# Altium integrated library TI Power Management LDO Single Channel(400-7500mA).IntLib: 1409 symbols (part 15 of 60)
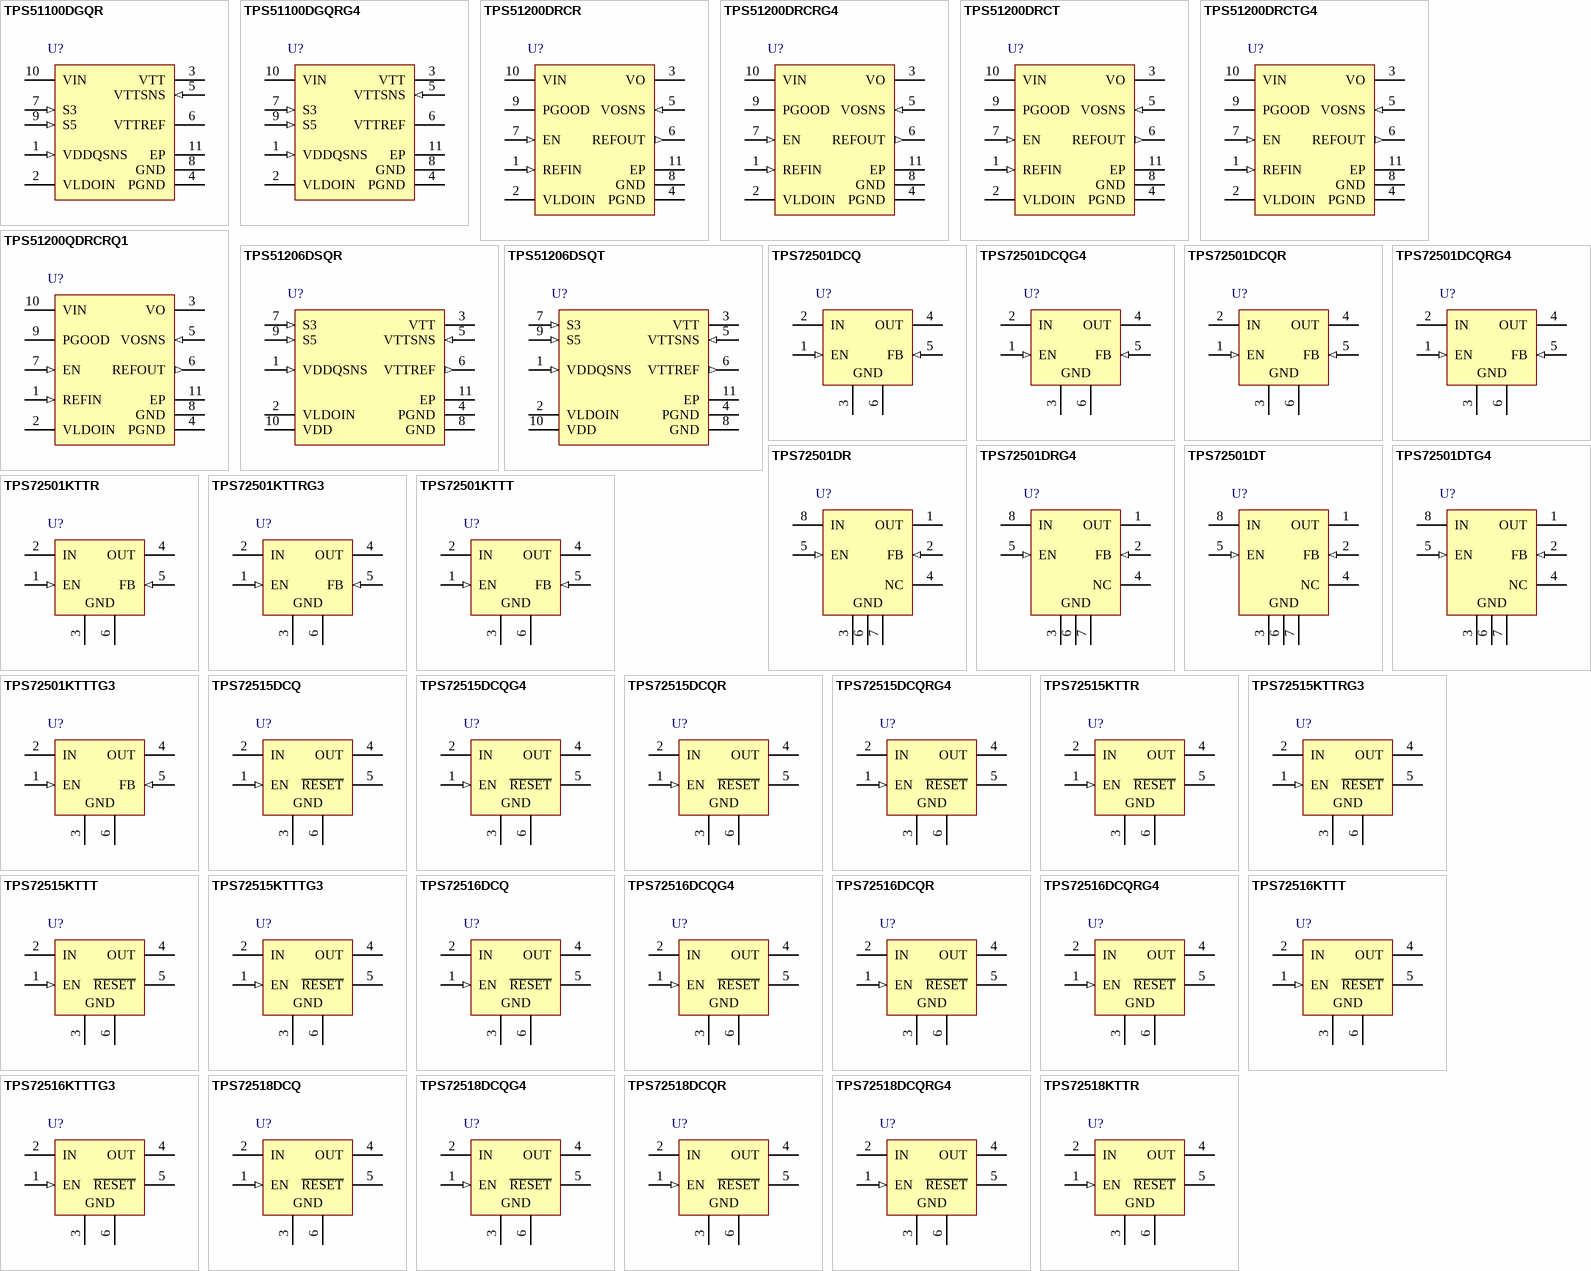
[diagram p64: symbols TPS51100DGQR to TPS72518KTTR]

## TPS72516DCQG4
designator U?
Single Output Any Cap LDO, 1 A, Fixed 1.6 V Output, 1.8 to 6 V Input, with Integrated SVS, 6-pin SOT-223 (DCQ), -40 to 125 degC, Green (RoHS & no Sb/Br); Manufacturer: Texas Instruments; PartNumber: TPS72516DCQG4; Accuracy(%): 2; Fixed Output Options(V): 1.8; Iout(Max)(A): 1; Iq(Typ)(mA): 0.07; SubFamily: Single Channel LDO; Vdo(Typ)(mV): 170; Vin(Max)(V): 6; Vout Adj(Max)(V): 1.6; DatasheetVersion: SLVS341E; PackageVersion: 4202109/D; PackageReference: DCQ6; PackageDescription: 6-Pin Plastic Small Outline, Body 3.5 x 6.5 mm, Pitch 1.27 mm; Supplier 1: Digi-Key; Supplier Part Number 1: TPS72516DCQG4-ND; Supplier 2: Mouser; Supplier Part Number 2: 595-TPS72516DCQG4; Eco-Plan: Green (RoHS & no Sb/Br); Vin(Min)(V): 1.8; Vout Adj(Min)(V): 1.6; Mounting Technology: Surface Mount; ComponentLink1Description: Manufacturer URL; ComponentLink1URL: http://www.ti.com/; ComponentLink2Description: Datasheet; ComponentLink2URL: http://www.ti.com/general/docs/lit/getliterature.tsp?genericPartNumber=TPS72516&fileType=pdf; ComponentLink3Description: Package Specification; ComponentLink3URL: http://www.ti.com/litv/pdf/mpds098c
footprint TI-DCQ6_N (SOT223, 6-Leads, Body 6.5x3.5mm, Pitch 1.27mm, IPC Medium Density)
footprint TI-DCQ6_L (SOT223, 6-Leads, Body 6.5x3.5mm, Pitch 1.27mm, IPC High Density)
footprint TI-DCQ6_M (SOT223, 6-Leads, Body 6.5x3.5mm, Pitch 1.27mm, IPC Low Density)
pins: 1 EN (in) "Enable input", 2 IN (power) "Input supply voltage", 3 GND (power) "Ground", 4 OUT (power) "Regulated output voltage", 5 ~{RESET} (oc) "This terminal is the R\E\S\E\T\ output. When used with a pull-up resistor, this open-drain output provides the active low R\E\S\E\T\ signal when the regulator output voltage drops more than 5% below its nominal output (See Datasheet)", 6 GND (power) "Exposed Thermal Tab"

## TPS72516DCQR
designator U?
Single Output Any Cap LDO, 1 A, Fixed 1.6 V Output, 1.8 to 6 V Input, with Integrated SVS, 6-pin SOT-223 (DCQ), -40 to 125 degC, Green (RoHS & no Sb/Br); Manufacturer: Texas Instruments; PartNumber: TPS72516DCQR; Accuracy(%): 2; Fixed Output Options(V): 1.8; Iout(Max)(A): 1; Iq(Typ)(mA): 0.07; SubFamily: Single Channel LDO; Vdo(Typ)(mV): 170; Vin(Max)(V): 6; Vout Adj(Max)(V): 1.6; DatasheetVersion: SLVS341E; PackageVersion: 4202109/D; PackageReference: DCQ6; PackageDescription: 6-Pin Plastic Small Outline, Body 3.5 x 6.5 mm, Pitch 1.27 mm; Supplier 1: Digi-Key; Supplier Part Number 1: 296-14420-2-ND; Supplier 2: Digi-Key; Supplier Part Number 2: 296-14420-1-ND; Supplier 3: Digi-Key; Supplier Part Number 3: 296-14420-6-ND; Supplier 4: Farnell; Supplier Part Number 4: 2113948; Supplier 5: Newark; Supplier Part Number 5: 96T7573; Supplier 6: Newark; Supplier Part Number 6: 02E7232; Supplier 7: Mouser; Supplier Part Number 7: 595-TPS72516DCQR; Eco-Plan: Green (RoHS & no Sb/Br); Vin(Min)(V): 1.8; Vout Adj(Min)(V): 1.6; Mounting Technology: Surface Mount; ComponentLink1Description: Manufacturer URL; ComponentLink1URL: http://www.ti.com/; ComponentLink2Description: Datasheet; ComponentLink2URL: http://www.ti.com/general/docs/lit/getliterature.tsp?genericPartNumber=TPS72516&fileType=pdf; ComponentLink3Description: Package Specification; ComponentLink3URL: http://www.ti.com/litv/pdf/mpds098c
footprint TI-DCQ6_N (SOT223, 6-Leads, Body 6.5x3.5mm, Pitch 1.27mm, IPC Medium Density)
footprint TI-DCQ6_L (SOT223, 6-Leads, Body 6.5x3.5mm, Pitch 1.27mm, IPC High Density)
footprint TI-DCQ6_M (SOT223, 6-Leads, Body 6.5x3.5mm, Pitch 1.27mm, IPC Low Density)
pins: 1 EN (in) "Enable input", 2 IN (power) "Input supply voltage", 3 GND (power) "Ground", 4 OUT (power) "Regulated output voltage", 5 ~{RESET} (oc) "This terminal is the R\E\S\E\T\ output. When used with a pull-up resistor, this open-drain output provides the active low R\E\S\E\T\ signal when the regulator output voltage drops more than 5% below its nominal output (See Datasheet)", 6 GND (power) "Exposed Thermal Tab"

## TPS72516DCQRG4
designator U?
Single Output Any Cap LDO, 1 A, Fixed 1.6 V Output, 1.8 to 6 V Input, with Integrated SVS, 6-pin SOT-223 (DCQ), -40 to 125 degC, Green (RoHS & no Sb/Br); Manufacturer: Texas Instruments; PartNumber: TPS72516DCQRG4; Accuracy(%): 2; Fixed Output Options(V): 1.6; Iout(Max)(A): 1; Iq(Typ)(mA): 0.07; SubFamily: Single Channel LDO; Vdo(Typ)(mV): 170; Vin(Max)(V): 6; Vin(Min)(V): 1.8; DatasheetVersion: SLVS341E; PackageVersion: 4202109/D; PackageReference: DCQ6; PackageDescription: 6-Pin Plastic Small Outline, Body 3.5 x 6.5 mm, Pitch 1.27 mm; Supplier 1: Digi-Key; Supplier Part Number 1: TPS72516DCQRG4-ND; Supplier 2: Mouser; Supplier Part Number 2: 595-TPS72516DCQRG4; Eco-Plan: Green (RoHS & no Sb/Br); Vout Adj(Max)(V): 1.6; Vout Adj(Min)(V): 1.6; Mounting Technology: Surface Mount; ComponentLink1Description: Manufacturer URL; ComponentLink1URL: http://www.ti.com/; ComponentLink2Description: Datasheet; ComponentLink2URL: http://www.ti.com/general/docs/lit/getliterature.tsp?genericPartNumber=TPS72516&fileType=pdf; ComponentLink3Description: Package Specification; ComponentLink3URL: http://www.ti.com/litv/pdf/mpds098c
footprint TI-DCQ6_N (SOT223, 6-Leads, Body 6.5x3.5mm, Pitch 1.27mm, IPC Medium Density)
footprint TI-DCQ6_L (SOT223, 6-Leads, Body 6.5x3.5mm, Pitch 1.27mm, IPC High Density)
footprint TI-DCQ6_M (SOT223, 6-Leads, Body 6.5x3.5mm, Pitch 1.27mm, IPC Low Density)
pins: 1 EN (in) "Enable input", 2 IN (power) "Input supply voltage", 3 GND (power) "Ground", 4 OUT (power) "Regulated output voltage", 5 ~{RESET} (oc) "This terminal is the R\E\S\E\T\ output. When used with a pull-up resistor, this open-drain output provides the active low R\E\S\E\T\ signal when the regulator output voltage drops more than 5% below its nominal output (See Datasheet)", 6 GND (power) "Exposed Thermal Tab"

## TPS72516KTTT
designator U?
Single Output Any Cap LDO, 1 A, Fixed 1.6 V Output, 1.8 to 6 V Input, with Integrated SVS, 5-pin DDPAK (KTT), -40 to 125 degC, Green (RoHS & no Sb/Br); Manufacturer: Texas Instruments; PartNumber: TPS72516KTTT; Accuracy(%): 2; Fixed Output Options(V): 1.8; Iout(Max)(A): 1; Iq(Typ)(mA): 0.07; SubFamily: Single Channel LDO; Vdo(Typ)(mV): 170; Vin(Max)(V): 6; Vout Adj(Max)(V): 1.6; DatasheetVersion: SLVS341E; PackageVersion: 4200577-3/F; PackageReference: KTT5; PackageDescription: 3-Pin Plastic Flange Mount, Body 10.16 x 10.34 mm, Pitch 1.7 mm; Supplier 1: Digi-Key; Supplier Part Number 1: 296-15951-2-ND; Supplier 2: Digi-Key; Supplier Part Number 2: 296-15951-1-ND; Supplier 3: Digi-Key; Supplier Part Number 3: 296-15951-6-ND; Supplier 4: Newark; Supplier Part Number 4: 02E7234; Supplier 5: Mouser; Supplier Part Number 5: 595-TPS72516KTTT; Eco-Plan: Green (RoHS & no Sb/Br); Vin(Min)(V): 1.8; Vout Adj(Min)(V): 1.6; Mounting Technology: Surface Mount; Code_JEDEC: TO-263; ComponentLink1Description: Manufacturer URL; ComponentLink1URL: http://www.ti.com/; ComponentLink2Description: Datasheet; ComponentLink2URL: http://www.ti.com/general/docs/lit/getliterature.tsp?genericPartNumber=TPS72516&fileType=pdf; ComponentLink3Description: Package Specification; ComponentLink3URL: http://www.ti.com/litv/pdf/mpsf007e
footprint TI-KTT5_N (DPAK, 5-Leads, Body 10.16x8.925mm, Pitch 1.7mm, IPC Medium Density)
footprint TI-KTT5_L (DPAK, 5-Leads, Body 10.16x8.925mm, Pitch 1.7mm, IPC High Density)
footprint TI-KTT5_M (DPAK, 5-Leads, Body 10.16x8.925mm, Pitch 1.7mm, IPC Low Density)
pins: 1 EN (in) "Enable input", 2 IN (power) "Input supply voltage", 3 GND (power) "Ground", 4 OUT (power) "Regulated output voltage", 5 ~{RESET} (oc) "This terminal is the R\E\S\E\T\ output. When used with a pull-up resistor, this open-drain output provides the active low R\E\S\E\T\ signal when the regulator output voltage drops more than 5% below its nominal output (See Datasheet)", 6 GND (power) "Exposed Thermal Tab"

## TPS72516KTTTG3
designator U?
Single Output Any Cap LDO, 1 A, Fixed 1.6 V Output, 1.8 to 6 V Input, with Integrated SVS, 5-pin DDPAK (KTT), -40 to 125 degC, Green (RoHS & no Sb/Br); Manufacturer: Texas Instruments; PartNumber: TPS72516KTTTG3; Accuracy(%): 2; Fixed Output Options(V): 1.6; Iout(Max)(A): 1; Iq(Typ)(mA): 0.07; SubFamily: Single Channel LDO; Vdo(Typ)(mV): 170; Vin(Max)(V): 6; Vin(Min)(V): 1.8; DatasheetVersion: SLVS341E; PackageVersion: 4200577-3/F; PackageReference: KTT5; PackageDescription: 3-Pin Plastic Flange Mount, Body 10.16 x 10.34 mm, Pitch 1.7 mm; Supplier 1: Digi-Key; Supplier Part Number 1: TPS72516KTTTG3-ND; Supplier 2: Mouser; Supplier Part Number 2: 595-TPS72516KTTTG3; Eco-Plan: Green (RoHS & no Sb/Br); Vout Adj(Max)(V): 1.6; Vout Adj(Min)(V): 1.6; Mounting Technology: Surface Mount; Code_JEDEC: TO-263; ComponentLink1Description: Manufacturer URL; ComponentLink1URL: http://www.ti.com/; ComponentLink2Description: Datasheet; ComponentLink2URL: http://www.ti.com/general/docs/lit/getliterature.tsp?genericPartNumber=TPS72516&fileType=pdf; ComponentLink3Description: Package Specification; ComponentLink3URL: http://www.ti.com/litv/pdf/mpsf007e
footprint TI-KTT5_N (DPAK, 5-Leads, Body 10.16x8.925mm, Pitch 1.7mm, IPC Medium Density)
footprint TI-KTT5_L (DPAK, 5-Leads, Body 10.16x8.925mm, Pitch 1.7mm, IPC High Density)
footprint TI-KTT5_M (DPAK, 5-Leads, Body 10.16x8.925mm, Pitch 1.7mm, IPC Low Density)
pins: 1 EN (in) "Enable input", 2 IN (power) "Input supply voltage", 3 GND (power) "Ground", 4 OUT (power) "Regulated output voltage", 5 ~{RESET} (oc) "This terminal is the R\E\S\E\T\ output. When used with a pull-up resistor, this open-drain output provides the active low R\E\S\E\T\ signal when the regulator output voltage drops more than 5% below its nominal output (See Datasheet)", 6 GND (power) "Exposed Thermal Tab"

## TPS72518DCQ
designator U?
Single Output Any Cap LDO, 1 A, Fixed 1.8 V Output, 1.8 to 6 V Input, with Integrated SVS, 6-pin SOT-223 (DCQ), -40 to 125 degC, Green (RoHS & no Sb/Br); Manufacturer: Texas Instruments; PartNumber: TPS72518DCQ; Accuracy(%): 2; Fixed Output Options(V): 1.8; Iout(Max)(A): 1; Iq(Typ)(mA): 0.07; SubFamily: Single Channel LDO; Vdo(Typ)(mV): 210; Vin(Max)(V): 6; DatasheetVersion: SLVS341E; PackageVersion: 4202109/D; PackageReference: DCQ6; PackageDescription: 6-Pin Plastic Small Outline, Body 3.5 x 6.5 mm, Pitch 1.27 mm; Supplier 1: Digi-Key; Supplier Part Number 1: 296-27052-5-ND; Supplier 2: Farnell; Supplier Part Number 2: 1135426; Supplier 3: Newark; Supplier Part Number 3: 77C0850; Supplier 4: Mouser; Supplier Part Number 4: 595-TPS72518DCQ; Eco-Plan: Green (RoHS & no Sb/Br); Vin(Min)(V): 1.8; Vout Adj(Max)(V): 1.8; Vout Adj(Min)(V): 1.8; Mounting Technology: Surface Mount; ComponentLink1Description: Manufacturer URL; ComponentLink1URL: http://www.ti.com/; ComponentLink2Description: Datasheet; ComponentLink2URL: http://www.ti.com/general/docs/lit/getliterature.tsp?genericPartNumber=TPS72518&fileType=pdf; ComponentLink3Description: Package Specification; ComponentLink3URL: http://www.ti.com/litv/pdf/mpds098c
footprint TI-DCQ6_N (SOT223, 6-Leads, Body 6.5x3.5mm, Pitch 1.27mm, IPC Medium Density)
footprint TI-DCQ6_L (SOT223, 6-Leads, Body 6.5x3.5mm, Pitch 1.27mm, IPC High Density)
footprint TI-DCQ6_M (SOT223, 6-Leads, Body 6.5x3.5mm, Pitch 1.27mm, IPC Low Density)
pins: 1 EN (in) "Enable input", 2 IN (power) "Input supply voltage", 3 GND (power) "Ground", 4 OUT (power) "Regulated output voltage", 5 ~{RESET} (oc) "This terminal is the R\E\S\E\T\ output. When used with a pull-up resistor, this open-drain output provides the active low R\E\S\E\T\ signal when the regulator output voltage drops more than 5% below its nominal output (See Datasheet)", 6 GND (power) "Exposed Thermal Tab"

## TPS72518DCQG4
designator U?
Single Output Any Cap LDO, 1 A, Fixed 1.8 V Output, 1.8 to 6 V Input, with Integrated SVS, 6-pin SOT-223 (DCQ), -40 to 125 degC, Green (RoHS & no Sb/Br); Manufacturer: Texas Instruments; PartNumber: TPS72518DCQG4; Accuracy(%): 2; Fixed Output Options(V): 1.8; Iout(Max)(A): 1; Iq(Typ)(mA): 0.07; SubFamily: Single Channel LDO; Vdo(Typ)(mV): 210; Vin(Max)(V): 6; DatasheetVersion: SLVS341E; PackageVersion: 4202109/D; PackageReference: DCQ6; PackageDescription: 6-Pin Plastic Small Outline, Body 3.5 x 6.5 mm, Pitch 1.27 mm; Supplier 1: Digi-Key; Supplier Part Number 1: TPS72518DCQG4-ND; Supplier 2: Mouser; Supplier Part Number 2: 595-TPS72518DCQG4; Eco-Plan: Green (RoHS & no Sb/Br); Vin(Min)(V): 1.8; Vout Adj(Max)(V): 1.8; Vout Adj(Min)(V): 1.8; Mounting Technology: Surface Mount; ComponentLink1Description: Manufacturer URL; ComponentLink1URL: http://www.ti.com/; ComponentLink2Description: Datasheet; ComponentLink2URL: http://www.ti.com/general/docs/lit/getliterature.tsp?genericPartNumber=TPS72518&fileType=pdf; ComponentLink3Description: Package Specification; ComponentLink3URL: http://www.ti.com/litv/pdf/mpds098c
footprint TI-DCQ6_N (SOT223, 6-Leads, Body 6.5x3.5mm, Pitch 1.27mm, IPC Medium Density)
footprint TI-DCQ6_L (SOT223, 6-Leads, Body 6.5x3.5mm, Pitch 1.27mm, IPC High Density)
footprint TI-DCQ6_M (SOT223, 6-Leads, Body 6.5x3.5mm, Pitch 1.27mm, IPC Low Density)
pins: 1 EN (in) "Enable input", 2 IN (power) "Input supply voltage", 3 GND (power) "Ground", 4 OUT (power) "Regulated output voltage", 5 ~{RESET} (oc) "This terminal is the R\E\S\E\T\ output. When used with a pull-up resistor, this open-drain output provides the active low R\E\S\E\T\ signal when the regulator output voltage drops more than 5% below its nominal output (See Datasheet)", 6 GND (power) "Exposed Thermal Tab"

## TPS72518DCQR
designator U?
Single Output Any Cap LDO, 1 A, Fixed 1.8 V Output, 1.8 to 6 V Input, with Integrated SVS, 6-pin SOT-223 (DCQ), -40 to 125 degC, Green (RoHS & no Sb/Br); Manufacturer: Texas Instruments; PartNumber: TPS72518DCQR; Accuracy(%): 2; Fixed Output Options(V): 1.8; Iout(Max)(A): 1; Iq(Typ)(mA): 0.07; SubFamily: Single Channel LDO; Vdo(Typ)(mV): 210; Vin(Max)(V): 6; DatasheetVersion: SLVS341E; PackageVersion: 4202109/D; PackageReference: DCQ6; PackageDescription: 6-Pin Plastic Small Outline, Body 3.5 x 6.5 mm, Pitch 1.27 mm; Supplier 1: Digi-Key; Supplier Part Number 1: 296-12694-2-ND; Supplier 2: Digi-Key; Supplier Part Number 2: 296-12694-1-ND; Supplier 3: Digi-Key; Supplier Part Number 3: 296-12694-6-ND; Supplier 4: Newark; Supplier Part Number 4: 77C0851; Supplier 5: Mouser; Supplier Part Number 5: 595-TPS72518DCQR; Eco-Plan: Green (RoHS & no Sb/Br); Vin(Min)(V): 1.8; Vout Adj(Max)(V): 1.8; Vout Adj(Min)(V): 1.8; Mounting Technology: Surface Mount; ComponentLink1Description: Manufacturer URL; ComponentLink1URL: http://www.ti.com/; ComponentLink2Description: Datasheet; ComponentLink2URL: http://www.ti.com/general/docs/lit/getliterature.tsp?genericPartNumber=TPS72518&fileType=pdf; ComponentLink3Description: Package Specification; ComponentLink3URL: http://www.ti.com/litv/pdf/mpds098c
footprint TI-DCQ6_N (SOT223, 6-Leads, Body 6.5x3.5mm, Pitch 1.27mm, IPC Medium Density)
footprint TI-DCQ6_L (SOT223, 6-Leads, Body 6.5x3.5mm, Pitch 1.27mm, IPC High Density)
footprint TI-DCQ6_M (SOT223, 6-Leads, Body 6.5x3.5mm, Pitch 1.27mm, IPC Low Density)
pins: 1 EN (in) "Enable input", 2 IN (power) "Input supply voltage", 3 GND (power) "Ground", 4 OUT (power) "Regulated output voltage", 5 ~{RESET} (oc) "This terminal is the R\E\S\E\T\ output. When used with a pull-up resistor, this open-drain output provides the active low R\E\S\E\T\ signal when the regulator output voltage drops more than 5% below its nominal output (See Datasheet)", 6 GND (power) "Exposed Thermal Tab"

## TPS72518DCQRG4
designator U?
Single Output Any Cap LDO, 1 A, Fixed 1.8 V Output, 1.8 to 6 V Input, with Integrated SVS, 6-pin SOT-223 (DCQ), -40 to 125 degC, Green (RoHS & no Sb/Br); Manufacturer: Texas Instruments; PartNumber: TPS72518DCQRG4; Accuracy(%): 2; Fixed Output Options(V): 1.8; Iout(Max)(A): 1; Iq(Typ)(mA): 0.07; SubFamily: Single Channel LDO; Vdo(Typ)(mV): 210; Vin(Max)(V): 6; DatasheetVersion: SLVS341E; PackageVersion: 4202109/D; PackageReference: DCQ6; PackageDescription: 6-Pin Plastic Small Outline, Body 3.5 x 6.5 mm, Pitch 1.27 mm; Supplier 1: Digi-Key; Supplier Part Number 1: TPS72518DCQRG4-ND; Supplier 2: Mouser; Supplier Part Number 2: 595-TPS72518DCQRG4; Eco-Plan: Green (RoHS & no Sb/Br); Vin(Min)(V): 1.8; Vout Adj(Max)(V): 1.8; Vout Adj(Min)(V): 1.8; Mounting Technology: Surface Mount; ComponentLink1Description: Manufacturer URL; ComponentLink1URL: http://www.ti.com/; ComponentLink2Description: Datasheet; ComponentLink2URL: http://www.ti.com/general/docs/lit/getliterature.tsp?genericPartNumber=TPS72518&fileType=pdf; ComponentLink3Description: Package Specification; ComponentLink3URL: http://www.ti.com/litv/pdf/mpds098c
footprint TI-DCQ6_N (SOT223, 6-Leads, Body 6.5x3.5mm, Pitch 1.27mm, IPC Medium Density)
footprint TI-DCQ6_L (SOT223, 6-Leads, Body 6.5x3.5mm, Pitch 1.27mm, IPC High Density)
footprint TI-DCQ6_M (SOT223, 6-Leads, Body 6.5x3.5mm, Pitch 1.27mm, IPC Low Density)
pins: 1 EN (in) "Enable input", 2 IN (power) "Input supply voltage", 3 GND (power) "Ground", 4 OUT (power) "Regulated output voltage", 5 ~{RESET} (oc) "This terminal is the R\E\S\E\T\ output. When used with a pull-up resistor, this open-drain output provides the active low R\E\S\E\T\ signal when the regulator output voltage drops more than 5% below its nominal output (See Datasheet)", 6 GND (power) "Exposed Thermal Tab"

## TPS72518KTTR
designator U?
Single Output Any Cap LDO, 1 A, Fixed 1.8 V Output, 1.8 to 6 V Input, with Integrated SVS, 5-pin DDPAK (KTT), -40 to 125 degC, Green (RoHS & no Sb/Br); Manufacturer: Texas Instruments; PartNumber: TPS72518KTTR; Accuracy(%): 2; Fixed Output Options(V): 1.8; Iout(Max)(A): 1; Iq(Typ)(mA): 0.07; SubFamily: Single Channel LDO; Vdo(Typ)(mV): 210; Vin(Max)(V): 6; DatasheetVersion: SLVS341E; PackageVersion: 4200577-3/F; PackageReference: KTT5; PackageDescription: 3-Pin Plastic Flange Mount, Body 10.16 x 10.34 mm, Pitch 1.7 mm; Supplier 1: Digi-Key; Supplier Part Number 1: TPS72518KTTR-ND; Supplier 2: Newark; Supplier Part Number 2: 87H2937; Supplier 3: Mouser; Supplier Part Number 3: 595-TPS72518KTTR; Eco-Plan: Green (RoHS & no Sb/Br); Vin(Min)(V): 1.8; Vout Adj(Max)(V): 1.8; Vout Adj(Min)(V): 1.8; Mounting Technology: Surface Mount; Code_JEDEC: TO-263; ComponentLink1Description: Manufacturer URL; ComponentLink1URL: http://www.ti.com/; ComponentLink2Description: Datasheet; ComponentLink2URL: http://www.ti.com/general/docs/lit/getliterature.tsp?genericPartNumber=TPS72518&fileType=pdf; ComponentLink3Description: Package Specification; ComponentLink3URL: http://www.ti.com/litv/pdf/mpsf007e
footprint TI-KTT5_N (DPAK, 5-Leads, Body 10.16x8.925mm, Pitch 1.7mm, IPC Medium Density)
footprint TI-KTT5_L (DPAK, 5-Leads, Body 10.16x8.925mm, Pitch 1.7mm, IPC High Density)
footprint TI-KTT5_M (DPAK, 5-Leads, Body 10.16x8.925mm, Pitch 1.7mm, IPC Low Density)
pins: 1 EN (in) "Enable input", 2 IN (power) "Input supply voltage", 3 GND (power) "Ground", 4 OUT (power) "Regulated output voltage", 5 ~{RESET} (oc) "This terminal is the R\E\S\E\T\ output. When used with a pull-up resistor, this open-drain output provides the active low R\E\S\E\T\ signal when the regulator output voltage drops more than 5% below its nominal output (See Datasheet)", 6 GND (power) "Exposed Thermal Tab"

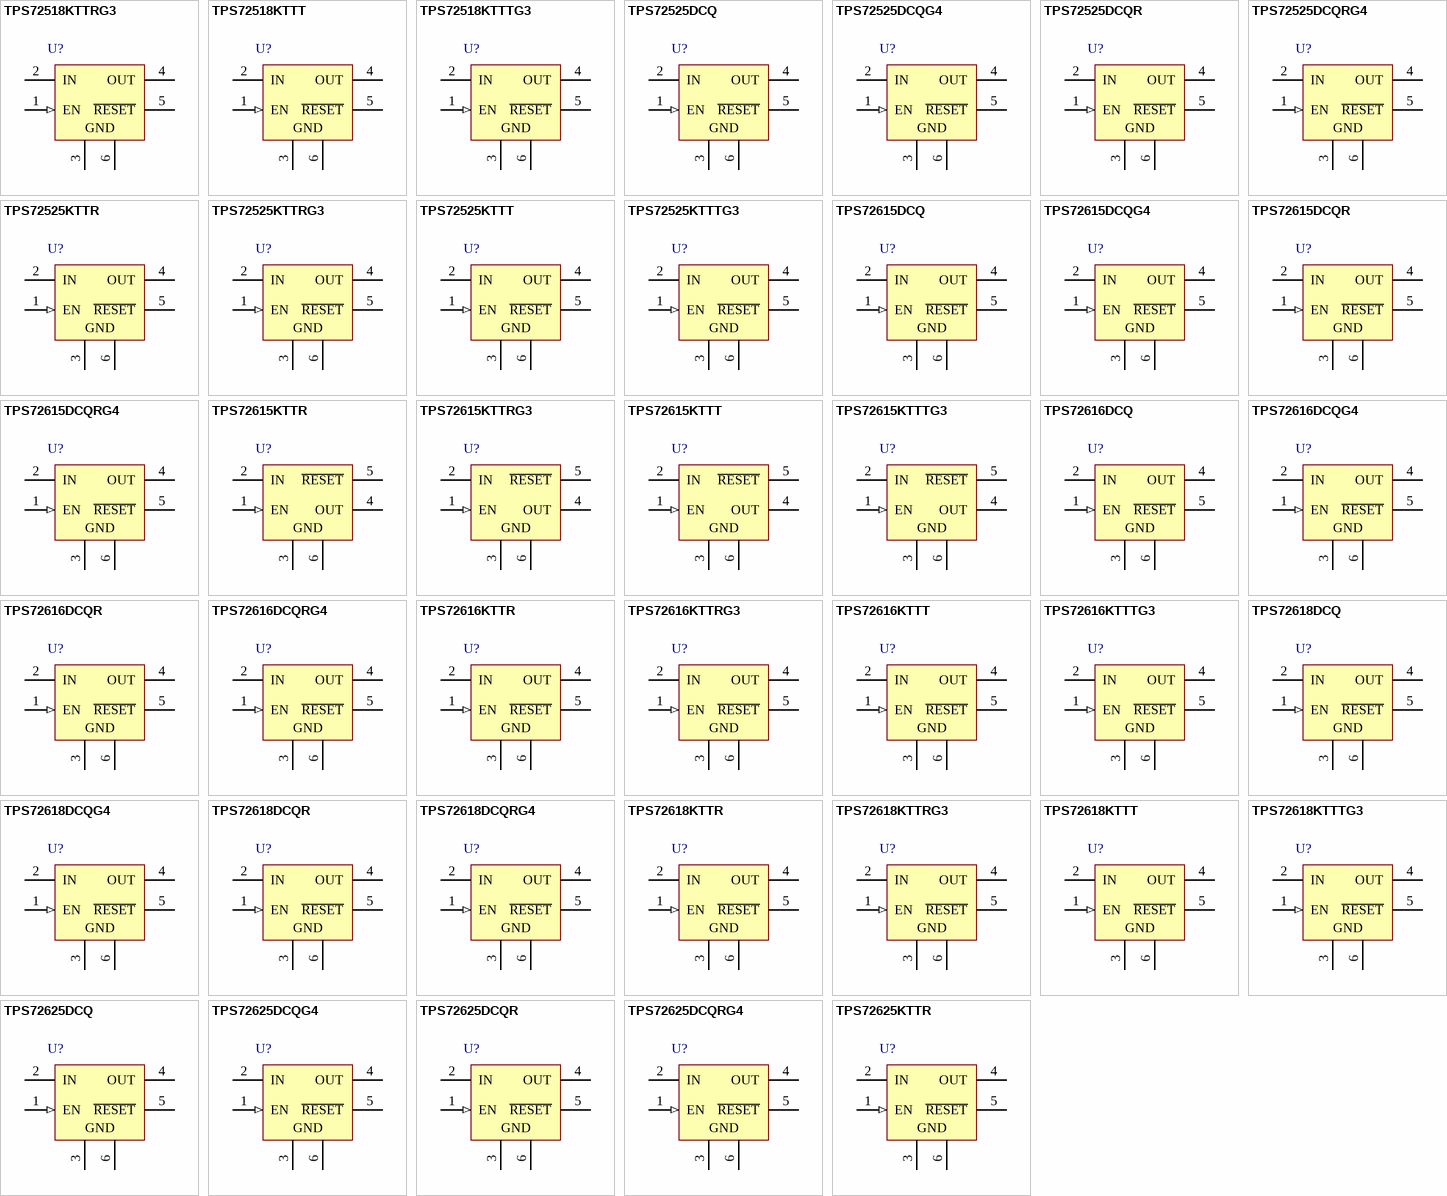
[diagram p10: symbols TPS72518KTTRG3 to TPS72625KTTR]

## TPS72518KTTRG3
designator U?
Single Output Any Cap LDO, 1 A, Fixed 1.8 V Output, 1.8 to 6 V Input, with Integrated SVS, 5-pin DDPAK (KTT), -40 to 125 degC, Green (RoHS & no Sb/Br); Manufacturer: Texas Instruments; PartNumber: TPS72518KTTRG3; Accuracy(%): 2; Fixed Output Options(V): 1.8; Iout(Max)(A): 1; Iq(Typ)(mA): 0.07; SubFamily: Single Channel LDO; Vdo(Typ)(mV): 210; Vin(Max)(V): 6; DatasheetVersion: SLVS341E; PackageVersion: 4200577-3/F; PackageReference: KTT5; PackageDescription: 3-Pin Plastic Flange Mount, Body 10.16 x 10.34 mm, Pitch 1.7 mm; Supplier 1: Digi-Key; Supplier Part Number 1: TPS72518KTTRG3-ND; Supplier 2: Mouser; Supplier Part Number 2: 595-TPS72518KTTRG3; Eco-Plan: Green (RoHS & no Sb/Br); Vin(Min)(V): 1.8; Vout Adj(Max)(V): 1.8; Vout Adj(Min)(V): 1.8; Mounting Technology: Surface Mount; Code_JEDEC: TO-263; ComponentLink1Description: Manufacturer URL; ComponentLink1URL: http://www.ti.com/; ComponentLink2Description: Datasheet; ComponentLink2URL: http://www.ti.com/general/docs/lit/getliterature.tsp?genericPartNumber=TPS72518&fileType=pdf; ComponentLink3Description: Package Specification; ComponentLink3URL: http://www.ti.com/litv/pdf/mpsf007e
footprint TI-KTT5_N (DPAK, 5-Leads, Body 10.16x8.925mm, Pitch 1.7mm, IPC Medium Density)
footprint TI-KTT5_L (DPAK, 5-Leads, Body 10.16x8.925mm, Pitch 1.7mm, IPC High Density)
footprint TI-KTT5_M (DPAK, 5-Leads, Body 10.16x8.925mm, Pitch 1.7mm, IPC Low Density)
pins: 1 EN (in) "Enable input", 2 IN (power) "Input supply voltage", 3 GND (power) "Ground", 4 OUT (power) "Regulated output voltage", 5 ~{RESET} (oc) "This terminal is the R\E\S\E\T\ output. When used with a pull-up resistor, this open-drain output provides the active low R\E\S\E\T\ signal when the regulator output voltage drops more than 5% below its nominal output (See Datasheet)", 6 GND (power) "Exposed Thermal Tab"

## TPS72518KTTT
designator U?
Single Output Any Cap LDO, 1 A, Fixed 1.8 V Output, 1.8 to 6 V Input, with Integrated SVS, 5-pin DDPAK (KTT), -40 to 125 degC, Green (RoHS & no Sb/Br); Manufacturer: Texas Instruments; PartNumber: TPS72518KTTT; Accuracy(%): 2; Fixed Output Options(V): 1.8; Iout(Max)(A): 1; Iq(Typ)(mA): 0.07; SubFamily: Single Channel LDO; Vdo(Typ)(mV): 210; Vin(Max)(V): 6; DatasheetVersion: SLVS341E; PackageVersion: 4200577-3/F; PackageReference: KTT5; PackageDescription: 3-Pin Plastic Flange Mount, Body 10.16 x 10.34 mm, Pitch 1.7 mm; Supplier 1: Digi-Key; Supplier Part Number 1: 296-12695-2-ND; Supplier 2: Digi-Key; Supplier Part Number 2: 296-12695-1-ND; Supplier 3: Digi-Key; Supplier Part Number 3: 296-12695-6-ND; Supplier 4: Newark; Supplier Part Number 4: 77C0853; Supplier 5: Mouser; Supplier Part Number 5: 595-TPS72518KTTT; Eco-Plan: Green (RoHS & no Sb/Br); Vin(Min)(V): 1.8; Vout Adj(Max)(V): 1.8; Vout Adj(Min)(V): 1.8; Mounting Technology: Surface Mount; Code_JEDEC: TO-263; ComponentLink1Description: Manufacturer URL; ComponentLink1URL: http://www.ti.com/; ComponentLink2Description: Datasheet; ComponentLink2URL: http://www.ti.com/general/docs/lit/getliterature.tsp?genericPartNumber=TPS72518&fileType=pdf; ComponentLink3Description: Package Specification; ComponentLink3URL: http://www.ti.com/litv/pdf/mpsf007e
footprint TI-KTT5_N (DPAK, 5-Leads, Body 10.16x8.925mm, Pitch 1.7mm, IPC Medium Density)
footprint TI-KTT5_L (DPAK, 5-Leads, Body 10.16x8.925mm, Pitch 1.7mm, IPC High Density)
footprint TI-KTT5_M (DPAK, 5-Leads, Body 10.16x8.925mm, Pitch 1.7mm, IPC Low Density)
pins: 1 EN (in) "Enable input", 2 IN (power) "Input supply voltage", 3 GND (power) "Ground", 4 OUT (power) "Regulated output voltage", 5 ~{RESET} (oc) "This terminal is the R\E\S\E\T\ output. When used with a pull-up resistor, this open-drain output provides the active low R\E\S\E\T\ signal when the regulator output voltage drops more than 5% below its nominal output (See Datasheet)", 6 GND (power) "Exposed Thermal Tab"

## TPS72518KTTTG3
designator U?
Single Output Any Cap LDO, 1 A, Fixed 1.8 V Output, 1.8 to 6 V Input, with Integrated SVS, 5-pin DDPAK (KTT), -40 to 125 degC, Green (RoHS & no Sb/Br); Manufacturer: Texas Instruments; PartNumber: TPS72518KTTTG3; Accuracy(%): 2; Fixed Output Options(V): 1.8; Iout(Max)(A): 1; Iq(Typ)(mA): 0.07; SubFamily: Single Channel LDO; Vdo(Typ)(mV): 210; Vin(Max)(V): 6; DatasheetVersion: SLVS341E; PackageVersion: 4200577-3/F; PackageReference: KTT5; PackageDescription: 3-Pin Plastic Flange Mount, Body 10.16 x 10.34 mm, Pitch 1.7 mm; Supplier 1: Digi-Key; Supplier Part Number 1: TPS72518KTTTG3-ND; Supplier 2: Mouser; Supplier Part Number 2: 595-TPS72518KTTTG3; Eco-Plan: Green (RoHS & no Sb/Br); Vin(Min)(V): 1.8; Vout Adj(Max)(V): 1.8; Vout Adj(Min)(V): 1.8; Mounting Technology: Surface Mount; Code_JEDEC: TO-263; ComponentLink1Description: Manufacturer URL; ComponentLink1URL: http://www.ti.com/; ComponentLink2Description: Datasheet; ComponentLink2URL: http://www.ti.com/general/docs/lit/getliterature.tsp?genericPartNumber=TPS72518&fileType=pdf; ComponentLink3Description: Package Specification; ComponentLink3URL: http://www.ti.com/litv/pdf/mpsf007e
footprint TI-KTT5_N (DPAK, 5-Leads, Body 10.16x8.925mm, Pitch 1.7mm, IPC Medium Density)
footprint TI-KTT5_L (DPAK, 5-Leads, Body 10.16x8.925mm, Pitch 1.7mm, IPC High Density)
footprint TI-KTT5_M (DPAK, 5-Leads, Body 10.16x8.925mm, Pitch 1.7mm, IPC Low Density)
pins: 1 EN (in) "Enable input", 2 IN (power) "Input supply voltage", 3 GND (power) "Ground", 4 OUT (power) "Regulated output voltage", 5 ~{RESET} (oc) "This terminal is the R\E\S\E\T\ output. When used with a pull-up resistor, this open-drain output provides the active low R\E\S\E\T\ signal when the regulator output voltage drops more than 5% below its nominal output (See Datasheet)", 6 GND (power) "Exposed Thermal Tab"

## TPS72525DCQ
designator U?
Single Output Any Cap LDO, 1 A, Fixed 2.5 V Output, 1.8 to 6 V Input, with Integrated SVS, 6-pin SOT-223 (DCQ), -40 to 125 degC, Green (RoHS & no Sb/Br); Manufacturer: Texas Instruments; PartNumber: TPS72525DCQ; Accuracy(%): 2; Fixed Output Options(V): 2.5; Iout(Max)(A): 1; Iq(Typ)(mA): 0.07; SubFamily: Single Channel LDO; Vdo(Typ)(mV): 170; Vin(Max)(V): 6; Vin(Min)(V): 1.8; DatasheetVersion: SLVS341E; PackageVersion: 4202109/D; PackageReference: DCQ6; PackageDescription: 6-Pin Plastic Small Outline, Body 3.5 x 6.5 mm, Pitch 1.27 mm; Supplier 1: Digi-Key; Supplier Part Number 1: 296-27053-5-ND; Supplier 2: Newark; Supplier Part Number 2: 77C0854; Supplier 3: Mouser; Supplier Part Number 3: 595-TPS72525DCQ; Eco-Plan: Green (RoHS & no Sb/Br); Vout Adj(Max)(V): 2.5; Vout Adj(Min)(V): 2.5; Mounting Technology: Surface Mount; ComponentLink1Description: Manufacturer URL; ComponentLink1URL: http://www.ti.com/; ComponentLink2Description: Datasheet; ComponentLink2URL: http://www.ti.com/general/docs/lit/getliterature.tsp?genericPartNumber=TPS72525&fileType=pdf; ComponentLink3Description: Package Specification; ComponentLink3URL: http://www.ti.com/litv/pdf/mpds098c
footprint TI-DCQ6_N (SOT223, 6-Leads, Body 6.5x3.5mm, Pitch 1.27mm, IPC Medium Density)
footprint TI-DCQ6_L (SOT223, 6-Leads, Body 6.5x3.5mm, Pitch 1.27mm, IPC High Density)
footprint TI-DCQ6_M (SOT223, 6-Leads, Body 6.5x3.5mm, Pitch 1.27mm, IPC Low Density)
pins: 1 EN (in) "Enable input", 2 IN (power) "Input supply voltage", 3 GND (power) "Ground", 4 OUT (power) "Regulated output voltage", 5 ~{RESET} (oc) "This terminal is the R\E\S\E\T\ output. When used with a pull-up resistor, this open-drain output provides the active low R\E\S\E\T\ signal when the regulator output voltage drops more than 5% below its nominal output (See Datasheet)", 6 GND (power) "Exposed Thermal Tab"

## TPS72525DCQG4
designator U?
Single Output Any Cap LDO, 1 A, Fixed 2.5 V Output, 1.8 to 6 V Input, with Integrated SVS, 6-pin SOT-223 (DCQ), -40 to 125 degC, Green (RoHS & no Sb/Br); Manufacturer: Texas Instruments; PartNumber: TPS72525DCQG4; Accuracy(%): 2; Fixed Output Options(V): 2.5; Iout(Max)(A): 1; Iq(Typ)(mA): 0.07; SubFamily: Single Channel LDO; Vdo(Typ)(mV): 170; Vin(Max)(V): 6; Vin(Min)(V): 1.8; DatasheetVersion: SLVS341E; PackageVersion: 4202109/D; PackageReference: DCQ6; PackageDescription: 6-Pin Plastic Small Outline, Body 3.5 x 6.5 mm, Pitch 1.27 mm; Supplier 1: Digi-Key; Supplier Part Number 1: TPS72525DCQG4-ND; Supplier 2: Mouser; Supplier Part Number 2: 595-TPS72525DCQG4; Eco-Plan: Green (RoHS & no Sb/Br); Vout Adj(Max)(V): 2.5; Vout Adj(Min)(V): 2.5; Mounting Technology: Surface Mount; ComponentLink1Description: Manufacturer URL; ComponentLink1URL: http://www.ti.com/; ComponentLink2Description: Datasheet; ComponentLink2URL: http://www.ti.com/general/docs/lit/getliterature.tsp?genericPartNumber=TPS72525&fileType=pdf; ComponentLink3Description: Package Specification; ComponentLink3URL: http://www.ti.com/litv/pdf/mpds098c
footprint TI-DCQ6_N (SOT223, 6-Leads, Body 6.5x3.5mm, Pitch 1.27mm, IPC Medium Density)
footprint TI-DCQ6_L (SOT223, 6-Leads, Body 6.5x3.5mm, Pitch 1.27mm, IPC High Density)
footprint TI-DCQ6_M (SOT223, 6-Leads, Body 6.5x3.5mm, Pitch 1.27mm, IPC Low Density)
pins: 1 EN (in) "Enable input", 2 IN (power) "Input supply voltage", 3 GND (power) "Ground", 4 OUT (power) "Regulated output voltage", 5 ~{RESET} (oc) "This terminal is the R\E\S\E\T\ output. When used with a pull-up resistor, this open-drain output provides the active low R\E\S\E\T\ signal when the regulator output voltage drops more than 5% below its nominal output (See Datasheet)", 6 GND (power) "Exposed Thermal Tab"

## TPS72525DCQR
designator U?
Single Output Any Cap LDO, 1 A, Fixed 2.5 V Output, 1.8 to 6 V Input, with Integrated SVS, 6-pin SOT-223 (DCQ), -40 to 125 degC, Green (RoHS & no Sb/Br); Manufacturer: Texas Instruments; PartNumber: TPS72525DCQR; Accuracy(%): 2; Fixed Output Options(V): 2.5; Iout(Max)(A): 1; Iq(Typ)(mA): 0.07; SubFamily: Single Channel LDO; Vdo(Typ)(mV): 170; Vin(Max)(V): 6; Vin(Min)(V): 1.8; DatasheetVersion: SLVS341E; PackageVersion: 4202109/D; PackageReference: DCQ6; PackageDescription: 6-Pin Plastic Small Outline, Body 3.5 x 6.5 mm, Pitch 1.27 mm; Supplier 1: Digi-Key; Supplier Part Number 1: 296-12696-2-ND; Supplier 2: Digi-Key; Supplier Part Number 2: 296-12696-1-ND; Supplier 3: Digi-Key; Supplier Part Number 3: 296-12696-6-ND; Supplier 4: Newark; Supplier Part Number 4: 77C0855; Supplier 5: Mouser; Supplier Part Number 5: 595-TPS72525DCQR; Eco-Plan: Green (RoHS & no Sb/Br); Vout Adj(Max)(V): 2.5; Vout Adj(Min)(V): 2.5; Mounting Technology: Surface Mount; ComponentLink1Description: Manufacturer URL; ComponentLink1URL: http://www.ti.com/; ComponentLink2Description: Datasheet; ComponentLink2URL: http://www.ti.com/general/docs/lit/getliterature.tsp?genericPartNumber=TPS72525&fileType=pdf; ComponentLink3Description: Package Specification; ComponentLink3URL: http://www.ti.com/litv/pdf/mpds098c
footprint TI-DCQ6_N (SOT223, 6-Leads, Body 6.5x3.5mm, Pitch 1.27mm, IPC Medium Density)
footprint TI-DCQ6_L (SOT223, 6-Leads, Body 6.5x3.5mm, Pitch 1.27mm, IPC High Density)
footprint TI-DCQ6_M (SOT223, 6-Leads, Body 6.5x3.5mm, Pitch 1.27mm, IPC Low Density)
pins: 1 EN (in) "Enable input", 2 IN (power) "Input supply voltage", 3 GND (power) "Ground", 4 OUT (power) "Regulated output voltage", 5 ~{RESET} (oc) "This terminal is the R\E\S\E\T\ output. When used with a pull-up resistor, this open-drain output provides the active low R\E\S\E\T\ signal when the regulator output voltage drops more than 5% below its nominal output (See Datasheet)", 6 GND (power) "Exposed Thermal Tab"

## TPS72525DCQRG4
designator U?
Single Output Any Cap LDO, 1 A, Fixed 2.5 V Output, 1.8 to 6 V Input, with Integrated SVS, 6-pin SOT-223 (DCQ), -40 to 125 degC, Green (RoHS & no Sb/Br); Manufacturer: Texas Instruments; PartNumber: TPS72525DCQRG4; Accuracy(%): 2; Fixed Output Options(V): 2.5; Iout(Max)(A): 1; Iq(Typ)(mA): 0.07; SubFamily: Single Channel LDO; Vdo(Typ)(mV): 170; Vin(Max)(V): 6; Vin(Min)(V): 1.8; DatasheetVersion: SLVS341E; PackageVersion: 4202109/D; PackageReference: DCQ6; PackageDescription: 6-Pin Plastic Small Outline, Body 3.5 x 6.5 mm, Pitch 1.27 mm; Supplier 1: Digi-Key; Supplier Part Number 1: TPS72525DCQRG4-ND; Supplier 2: Newark; Supplier Part Number 2: 24K6097; Supplier 3: Mouser; Supplier Part Number 3: 595-TPS72525DCQRG4; Eco-Plan: Green (RoHS & no Sb/Br); Vout Adj(Max)(V): 2.5; Vout Adj(Min)(V): 2.5; Mounting Technology: Surface Mount; ComponentLink1Description: Manufacturer URL; ComponentLink1URL: http://www.ti.com/; ComponentLink2Description: Datasheet; ComponentLink2URL: http://www.ti.com/general/docs/lit/getliterature.tsp?genericPartNumber=TPS72525&fileType=pdf; ComponentLink3Description: Package Specification; ComponentLink3URL: http://www.ti.com/litv/pdf/mpds098c
footprint TI-DCQ6_N (SOT223, 6-Leads, Body 6.5x3.5mm, Pitch 1.27mm, IPC Medium Density)
footprint TI-DCQ6_L (SOT223, 6-Leads, Body 6.5x3.5mm, Pitch 1.27mm, IPC High Density)
footprint TI-DCQ6_M (SOT223, 6-Leads, Body 6.5x3.5mm, Pitch 1.27mm, IPC Low Density)
pins: 1 EN (in) "Enable input", 2 IN (power) "Input supply voltage", 3 GND (power) "Ground", 4 OUT (power) "Regulated output voltage", 5 ~{RESET} (oc) "This terminal is the R\E\S\E\T\ output. When used with a pull-up resistor, this open-drain output provides the active low R\E\S\E\T\ signal when the regulator output voltage drops more than 5% below its nominal output (See Datasheet)", 6 GND (power) "Exposed Thermal Tab"

## TPS72525KTTR
designator U?
Single Output Any Cap LDO, 1 A, Fixed 2.5 V Output, 1.8 to 6 V Input, with Integrated SVS, 5-pin DDPAK (KTT), -40 to 125 degC, Green (RoHS & no Sb/Br); Manufacturer: Texas Instruments; PartNumber: TPS72525KTTR; Accuracy(%): 2; Fixed Output Options(V): 2.5; Iout(Max)(A): 1; Iq(Typ)(mA): 0.07; SubFamily: Single Channel LDO; Vdo(Typ)(mV): 170; Vin(Max)(V): 6; Vin(Min)(V): 1.8; DatasheetVersion: SLVS341E; PackageVersion: 4200577-3/F; PackageReference: KTT5; PackageDescription: 3-Pin Plastic Flange Mount, Body 10.16 x 10.34 mm, Pitch 1.7 mm; Supplier 1: Digi-Key; Supplier Part Number 1: TPS72525KTTR-ND; Supplier 2: Newark; Supplier Part Number 2: 87H2938; Supplier 3: Mouser; Supplier Part Number 3: 595-TPS72525KTTR; Eco-Plan: Green (RoHS & no Sb/Br); Vout Adj(Max)(V): 2.5; Vout Adj(Min)(V): 2.5; Mounting Technology: Surface Mount; Code_JEDEC: TO-263; ComponentLink1Description: Manufacturer URL; ComponentLink1URL: http://www.ti.com/; ComponentLink2Description: Datasheet; ComponentLink2URL: http://www.ti.com/general/docs/lit/getliterature.tsp?genericPartNumber=TPS72525&fileType=pdf; ComponentLink3Description: Package Specification; ComponentLink3URL: http://www.ti.com/litv/pdf/mpsf007e
footprint TI-KTT5_N (DPAK, 5-Leads, Body 10.16x8.925mm, Pitch 1.7mm, IPC Medium Density)
footprint TI-KTT5_L (DPAK, 5-Leads, Body 10.16x8.925mm, Pitch 1.7mm, IPC High Density)
footprint TI-KTT5_M (DPAK, 5-Leads, Body 10.16x8.925mm, Pitch 1.7mm, IPC Low Density)
pins: 1 EN (in) "Enable input", 2 IN (power) "Input supply voltage", 3 GND (power) "Ground", 4 OUT (power) "Regulated output voltage", 5 ~{RESET} (oc) "This terminal is the R\E\S\E\T\ output. When used with a pull-up resistor, this open-drain output provides the active low R\E\S\E\T\ signal when the regulator output voltage drops more than 5% below its nominal output (See Datasheet)", 6 GND (power) "Exposed Thermal Tab"

## TPS72525KTTRG3
designator U?
Single Output Any Cap LDO, 1 A, Fixed 2.5 V Output, 1.8 to 6 V Input, with Integrated SVS, 5-pin DDPAK (KTT), -40 to 125 degC, Green (RoHS & no Sb/Br); Manufacturer: Texas Instruments; PartNumber: TPS72525KTTRG3; Accuracy(%): 2; Fixed Output Options(V): 2.5; Iout(Max)(A): 1; Iq(Typ)(mA): 0.07; SubFamily: Single Channel LDO; Vdo(Typ)(mV): 170; Vin(Max)(V): 6; Vin(Min)(V): 1.8; DatasheetVersion: SLVS341E; PackageVersion: 4200577-3/F; PackageReference: KTT5; PackageDescription: 3-Pin Plastic Flange Mount, Body 10.16 x 10.34 mm, Pitch 1.7 mm; Supplier 1: Digi-Key; Supplier Part Number 1: TPS72525KTTRG3-ND; Supplier 2: Mouser; Supplier Part Number 2: 595-TPS72525KTTRG3; Eco-Plan: Green (RoHS & no Sb/Br); Vout Adj(Max)(V): 2.5; Vout Adj(Min)(V): 2.5; Mounting Technology: Surface Mount; Code_JEDEC: TO-263; ComponentLink1Description: Manufacturer URL; ComponentLink1URL: http://www.ti.com/; ComponentLink2Description: Datasheet; ComponentLink2URL: http://www.ti.com/general/docs/lit/getliterature.tsp?genericPartNumber=TPS72525&fileType=pdf; ComponentLink3Description: Package Specification; ComponentLink3URL: http://www.ti.com/litv/pdf/mpsf007e
footprint TI-KTT5_N (DPAK, 5-Leads, Body 10.16x8.925mm, Pitch 1.7mm, IPC Medium Density)
footprint TI-KTT5_L (DPAK, 5-Leads, Body 10.16x8.925mm, Pitch 1.7mm, IPC High Density)
footprint TI-KTT5_M (DPAK, 5-Leads, Body 10.16x8.925mm, Pitch 1.7mm, IPC Low Density)
pins: 1 EN (in) "Enable input", 2 IN (power) "Input supply voltage", 3 GND (power) "Ground", 4 OUT (power) "Regulated output voltage", 5 ~{RESET} (oc) "This terminal is the R\E\S\E\T\ output. When used with a pull-up resistor, this open-drain output provides the active low R\E\S\E\T\ signal when the regulator output voltage drops more than 5% below its nominal output (See Datasheet)", 6 GND (power) "Exposed Thermal Tab"

## TPS72525KTTT
designator U?
Single Output Any Cap LDO, 1 A, Fixed 2.5 V Output, 1.8 to 6 V Input, with Integrated SVS, 5-pin DDPAK (KTT), -40 to 125 degC, Green (RoHS & no Sb/Br); Manufacturer: Texas Instruments; PartNumber: TPS72525KTTT; Accuracy(%): 2; Fixed Output Options(V): 2.5; Iout(Max)(A): 1; Iq(Typ)(mA): 0.07; SubFamily: Single Channel LDO; Vdo(Typ)(mV): 170; Vin(Max)(V): 6; Vin(Min)(V): 1.8; DatasheetVersion: SLVS341E; PackageVersion: 4200577-3/F; PackageReference: KTT5; PackageDescription: 3-Pin Plastic Flange Mount, Body 10.16 x 10.34 mm, Pitch 1.7 mm; Supplier 1: Digi-Key; Supplier Part Number 1: 296-12697-2-ND; Supplier 2: Digi-Key; Supplier Part Number 2: 296-12697-1-ND; Supplier 3: Digi-Key; Supplier Part Number 3: 296-12697-6-ND; Supplier 4: Farnell; Supplier Part Number 4: 1135428; Supplier 5: Newark; Supplier Part Number 5: 77C0857; Supplier 6: Mouser; Supplier Part Number 6: 595-TPS72525KTTT; Eco-Plan: Green (RoHS & no Sb/Br); Vout Adj(Max)(V): 2.5; Vout Adj(Min)(V): 2.5; Mounting Technology: Surface Mount; Code_JEDEC: TO-263; ComponentLink1Description: Manufacturer URL; ComponentLink1URL: http://www.ti.com/; ComponentLink2Description: Datasheet; ComponentLink2URL: http://www.ti.com/general/docs/lit/getliterature.tsp?genericPartNumber=TPS72525&fileType=pdf; ComponentLink3Description: Package Specification; ComponentLink3URL: http://www.ti.com/litv/pdf/mpsf007e
footprint TI-KTT5_N (DPAK, 5-Leads, Body 10.16x8.925mm, Pitch 1.7mm, IPC Medium Density)
footprint TI-KTT5_L (DPAK, 5-Leads, Body 10.16x8.925mm, Pitch 1.7mm, IPC High Density)
footprint TI-KTT5_M (DPAK, 5-Leads, Body 10.16x8.925mm, Pitch 1.7mm, IPC Low Density)
pins: 1 EN (in) "Enable input", 2 IN (power) "Input supply voltage", 3 GND (power) "Ground", 4 OUT (power) "Regulated output voltage", 5 ~{RESET} (oc) "This terminal is the R\E\S\E\T\ output. When used with a pull-up resistor, this open-drain output provides the active low R\E\S\E\T\ signal when the regulator output voltage drops more than 5% below its nominal output (See Datasheet)", 6 GND (power) "Exposed Thermal Tab"

## TPS72525KTTTG3
designator U?
Single Output Any Cap LDO, 1 A, Fixed 2.5 V Output, 1.8 to 6 V Input, with Integrated SVS, 5-pin DDPAK (KTT), -40 to 125 degC, Green (RoHS & no Sb/Br); Manufacturer: Texas Instruments; PartNumber: TPS72525KTTTG3; Accuracy(%): 2; Fixed Output Options(V): 2.5; Iout(Max)(A): 1; Iq(Typ)(mA): 0.07; SubFamily: Single Channel LDO; Vdo(Typ)(mV): 170; Vin(Max)(V): 6; Vin(Min)(V): 1.8; DatasheetVersion: SLVS341E; PackageVersion: 4200577-3/F; PackageReference: KTT5; PackageDescription: 3-Pin Plastic Flange Mount, Body 10.16 x 10.34 mm, Pitch 1.7 mm; Supplier 1: Digi-Key; Supplier Part Number 1: TPS72525KTTTG3-ND; Supplier 2: Mouser; Supplier Part Number 2: 595-TPS72525KTTTG3; Eco-Plan: Green (RoHS & no Sb/Br); Vout Adj(Max)(V): 2.5; Vout Adj(Min)(V): 2.5; Mounting Technology: Surface Mount; Code_JEDEC: TO-263; ComponentLink1Description: Manufacturer URL; ComponentLink1URL: http://www.ti.com/; ComponentLink2Description: Datasheet; ComponentLink2URL: http://www.ti.com/general/docs/lit/getliterature.tsp?genericPartNumber=TPS72525&fileType=pdf; ComponentLink3Description: Package Specification; ComponentLink3URL: http://www.ti.com/litv/pdf/mpsf007e
footprint TI-KTT5_N (DPAK, 5-Leads, Body 10.16x8.925mm, Pitch 1.7mm, IPC Medium Density)
footprint TI-KTT5_L (DPAK, 5-Leads, Body 10.16x8.925mm, Pitch 1.7mm, IPC High Density)
footprint TI-KTT5_M (DPAK, 5-Leads, Body 10.16x8.925mm, Pitch 1.7mm, IPC Low Density)
pins: 1 EN (in) "Enable input", 2 IN (power) "Input supply voltage", 3 GND (power) "Ground", 4 OUT (power) "Regulated output voltage", 5 ~{RESET} (oc) "This terminal is the R\E\S\E\T\ output. When used with a pull-up resistor, this open-drain output provides the active low R\E\S\E\T\ signal when the regulator output voltage drops more than 5% below its nominal output (See Datasheet)", 6 GND (power) "Exposed Thermal Tab"

## TPS72615DCQ
designator U?
Single Output Any Cap LDO, 1 A, Fixed 1.5 V Output, 1.8 to 6 V Input, with Integrated SVS, 6-pin SOT-223 (DCQ), -40 to 125 degC, Green (RoHS & no Sb/Br); Manufacturer: Texas Instruments; PartNumber: TPS72615DCQ; Accuracy(%): 2; Fixed Output Options(V): 1.5; Iout(Max)(A): 1; Iq(Typ)(mA): 0.07; SubFamily: Single Channel LDO; Vdo(Typ)(mV): 200; Vin(Max)(V): 6; Vin(Min)(V): 1.8; DatasheetVersion: SLVS403H; PackageVersion: 4202109/D; PackageReference: DCQ6; PackageDescription: 6-Pin Plastic Small Outline, Body 3.5 x 6.5 mm, Pitch 1.27 mm; Supplier 1: Digi-Key; Supplier Part Number 1: 296-27054-5-ND; Supplier 2: Newark; Supplier Part Number 2: 77C0858; Supplier 3: Mouser; Supplier Part Number 3: 595-TPS72615DCQ; Eco-Plan: Green (RoHS & no Sb/Br); Vout Adj(Max)(V): 1.5; Vout Adj(Min)(V): 1.5; Mounting Technology: Surface Mount; ComponentLink1Description: Manufacturer URL; ComponentLink1URL: http://www.ti.com/; ComponentLink2Description: Datasheet; ComponentLink2URL: http://www.ti.com/general/docs/lit/getliterature.tsp?genericPartNumber=TPS72615&fileType=pdf; ComponentLink3Description: Package Specification; ComponentLink3URL: http://www.ti.com/litv/pdf/mpds098c
footprint TI-DCQ6_N (SOT223, 6-Leads, Body 6.5x3.5mm, Pitch 1.27mm, IPC Medium Density)
footprint TI-DCQ6_L (SOT223, 6-Leads, Body 6.5x3.5mm, Pitch 1.27mm, IPC High Density)
footprint TI-DCQ6_M (SOT223, 6-Leads, Body 6.5x3.5mm, Pitch 1.27mm, IPC Low Density)
pins: 1 EN (in) "Enable input", 2 IN (power) "Input supply voltage", 3 GND (power) "Ground", 4 OUT (power) "Regulated output voltage", 5 ~{RESET} (oc) "This terminal is the R\E\S\E\T\ output. When used with a pull-up resistor, this open-drain output provides the active low R\E\S\E\T\ signal when the regulator output voltage drops more than 5% below its nominal output (See Datasheet)", 6 GND (power) "Exposed Thermal Tab"

## TPS72615DCQG4
designator U?
Single Output Any Cap LDO, 1 A, Fixed 1.5 V Output, 1.8 to 6 V Input, with Integrated SVS, 6-pin SOT-223 (DCQ), -40 to 125 degC, Green (RoHS & no Sb/Br); Manufacturer: Texas Instruments; PartNumber: TPS72615DCQG4; Accuracy(%): 2; Fixed Output Options(V): 1.5; Iout(Max)(A): 1; Iq(Typ)(mA): 0.07; SubFamily: Single Channel LDO; Vdo(Typ)(mV): 200; Vin(Max)(V): 6; Vin(Min)(V): 1.8; DatasheetVersion: SLVS403H; PackageVersion: 4202109/D; PackageReference: DCQ6; PackageDescription: 6-Pin Plastic Small Outline, Body 3.5 x 6.5 mm, Pitch 1.27 mm; Supplier 1: Digi-Key; Supplier Part Number 1: TPS72615DCQG4-ND; Supplier 2: Newark; Supplier Part Number 2: 73K9615; Supplier 3: Mouser; Supplier Part Number 3: 595-TPS72615DCQG4; Eco-Plan: Green (RoHS & no Sb/Br); Vout Adj(Max)(V): 1.5; Vout Adj(Min)(V): 1.5; Mounting Technology: Surface Mount; ComponentLink1Description: Manufacturer URL; ComponentLink1URL: http://www.ti.com/; ComponentLink2Description: Datasheet; ComponentLink2URL: http://www.ti.com/general/docs/lit/getliterature.tsp?genericPartNumber=TPS72615&fileType=pdf; ComponentLink3Description: Package Specification; ComponentLink3URL: http://www.ti.com/litv/pdf/mpds098c
footprint TI-DCQ6_N (SOT223, 6-Leads, Body 6.5x3.5mm, Pitch 1.27mm, IPC Medium Density)
footprint TI-DCQ6_L (SOT223, 6-Leads, Body 6.5x3.5mm, Pitch 1.27mm, IPC High Density)
footprint TI-DCQ6_M (SOT223, 6-Leads, Body 6.5x3.5mm, Pitch 1.27mm, IPC Low Density)
pins: 1 EN (in) "Enable input", 2 IN (power) "Input supply voltage", 3 GND (power) "Ground", 4 OUT (power) "Regulated output voltage", 5 ~{RESET} (oc) "This terminal is the R\E\S\E\T\ output. When used with a pull-up resistor, this open-drain output provides the active low R\E\S\E\T\ signal when the regulator output voltage drops more than 5% below its nominal output (See Datasheet)", 6 GND (power) "Exposed Thermal Tab"

## TPS72615DCQR
designator U?
Single Output Any Cap LDO, 1 A, Fixed 1.5 V Output, 1.8 to 6 V Input, with Integrated SVS, 6-pin SOT-223 (DCQ), -40 to 125 degC, Green (RoHS & no Sb/Br); Manufacturer: Texas Instruments; PartNumber: TPS72615DCQR; Accuracy(%): 2; Fixed Output Options(V): 1.5; Iout(Max)(A): 1; Iq(Typ)(mA): 0.07; SubFamily: Single Channel LDO; Vdo(Typ)(mV): 200; Vin(Max)(V): 6; Vin(Min)(V): 1.8; DatasheetVersion: SLVS403H; PackageVersion: 4202109/D; PackageReference: DCQ6; PackageDescription: 6-Pin Plastic Small Outline, Body 3.5 x 6.5 mm, Pitch 1.27 mm; Supplier 1: Digi-Key; Supplier Part Number 1: 296-12958-2-ND; Supplier 2: Digi-Key; Supplier Part Number 2: 296-12958-1-ND; Supplier 3: Digi-Key; Supplier Part Number 3: 296-12958-6-ND; Supplier 4: Mouser; Supplier Part Number 4: 595-TPS72615DCQR; Eco-Plan: Green (RoHS & no Sb/Br); Vout Adj(Max)(V): 1.5; Vout Adj(Min)(V): 1.5; Mounting Technology: Surface Mount; ComponentLink1Description: Manufacturer URL; ComponentLink1URL: http://www.ti.com/; ComponentLink2Description: Datasheet; ComponentLink2URL: http://www.ti.com/general/docs/lit/getliterature.tsp?genericPartNumber=TPS72615&fileType=pdf; ComponentLink3Description: Package Specification; ComponentLink3URL: http://www.ti.com/litv/pdf/mpds098c
footprint TI-DCQ6_N (SOT223, 6-Leads, Body 6.5x3.5mm, Pitch 1.27mm, IPC Medium Density)
footprint TI-DCQ6_L (SOT223, 6-Leads, Body 6.5x3.5mm, Pitch 1.27mm, IPC High Density)
footprint TI-DCQ6_M (SOT223, 6-Leads, Body 6.5x3.5mm, Pitch 1.27mm, IPC Low Density)
pins: 1 EN (in) "Enable input", 2 IN (power) "Input supply voltage", 3 GND (power) "Ground", 4 OUT (power) "Regulated output voltage", 5 ~{RESET} (oc) "This terminal is the R\E\S\E\T\ output. When used with a pull-up resistor, this open-drain output provides the active low R\E\S\E\T\ signal when the regulator output voltage drops more than 5% below its nominal output (See Datasheet)", 6 GND (power) "Exposed Thermal Tab"

## TPS72615DCQRG4
designator U?
Single Output Any Cap LDO, 1 A, Fixed 1.5 V Output, 1.8 to 6 V Input, with Integrated SVS, 6-pin SOT-223 (DCQ), -40 to 125 degC, Green (RoHS & no Sb/Br); Manufacturer: Texas Instruments; PartNumber: TPS72615DCQRG4; Accuracy(%): 2; Fixed Output Options(V): 1.5; Iout(Max)(A): 1; Iq(Typ)(mA): 0.07; SubFamily: Single Channel LDO; Vdo(Typ)(mV): 200; Vin(Max)(V): 6; Vin(Min)(V): 1.8; DatasheetVersion: SLVS403H; PackageVersion: 4202109/D; PackageReference: DCQ6; PackageDescription: 6-Pin Plastic Small Outline, Body 3.5 x 6.5 mm, Pitch 1.27 mm; Supplier 1: Digi-Key; Supplier Part Number 1: TPS72615DCQRG4-ND; Supplier 2: Mouser; Supplier Part Number 2: 595-TPS72615DCQRG4; Eco-Plan: Green (RoHS & no Sb/Br); Vout Adj(Max)(V): 1.5; Vout Adj(Min)(V): 1.5; Mounting Technology: Surface Mount; ComponentLink1Description: Manufacturer URL; ComponentLink1URL: http://www.ti.com/; ComponentLink2Description: Datasheet; ComponentLink2URL: http://www.ti.com/general/docs/lit/getliterature.tsp?genericPartNumber=TPS72615&fileType=pdf; ComponentLink3Description: Package Specification; ComponentLink3URL: http://www.ti.com/litv/pdf/mpds098c
footprint TI-DCQ6_N (SOT223, 6-Leads, Body 6.5x3.5mm, Pitch 1.27mm, IPC Medium Density)
footprint TI-DCQ6_L (SOT223, 6-Leads, Body 6.5x3.5mm, Pitch 1.27mm, IPC High Density)
footprint TI-DCQ6_M (SOT223, 6-Leads, Body 6.5x3.5mm, Pitch 1.27mm, IPC Low Density)
pins: 1 EN (in) "Enable input", 2 IN (power) "Input supply voltage", 3 GND (power) "Ground", 4 OUT (power) "Regulated output voltage", 5 ~{RESET} (oc) "This terminal is the R\E\S\E\T\ output. When used with a pull-up resistor, this open-drain output provides the active low R\E\S\E\T\ signal when the regulator output voltage drops more than 5% below its nominal output (See Datasheet)", 6 GND (power) "Exposed Thermal Tab"

## TPS72615KTTR
designator U?
Single Output Any Cap LDO, 1 A, Fixed 1.5 V Output, 1.8 to 6 V Input, with Integrated SVS, 5-pin DDPAK (KTT), -40 to 125 degC, Green (RoHS & no Sb/Br); Manufacturer: Texas Instruments; PartNumber: TPS72615KTTR; Accuracy(%): 2; Fixed Output Options(V): 1.5; Iout(Max)(A): 1; Iq(Typ)(mA): 0.07; SubFamily: Single Channel LDO; Vdo(Typ)(mV): 200; Vin(Max)(V): 6; Vin(Min)(V): 1.8; DatasheetVersion: SLVS403H; PackageVersion: 4200577-3/F; PackageReference: KTT5; PackageDescription: 3-Pin Plastic Flange Mount, Body 10.16 x 10.34 mm, Pitch 1.7 mm; Supplier 1: Digi-Key; Supplier Part Number 1: TPS72615KTTR-ND; Supplier 2: Mouser; Supplier Part Number 2: 595-TPS72615KTTR; Eco-Plan: Green (RoHS & no Sb/Br); Vout Adj(Max)(V): 1.5; Vout Adj(Min)(V): 1.5; Mounting Technology: Surface Mount; Code_JEDEC: TO-263; ComponentLink1Description: Manufacturer URL; ComponentLink1URL: http://www.ti.com/; ComponentLink2Description: Datasheet; ComponentLink2URL: http://www.ti.com/general/docs/lit/getliterature.tsp?genericPartNumber=TPS72615&fileType=pdf; ComponentLink3Description: Package Specification; ComponentLink3URL: http://www.ti.com/litv/pdf/mpsf007e
footprint TI-KTT5_N (DPAK, 5-Leads, Body 10.16x8.925mm, Pitch 1.7mm, IPC Medium Density)
footprint TI-KTT5_L (DPAK, 5-Leads, Body 10.16x8.925mm, Pitch 1.7mm, IPC High Density)
footprint TI-KTT5_M (DPAK, 5-Leads, Body 10.16x8.925mm, Pitch 1.7mm, IPC Low Density)
pins: 1 EN (in) "Enable input", 2 IN (power) "Input supply voltage", 3 GND (power) "Ground", 4 OUT (power) "Regulated output voltage", 5 ~{RESET} (oc) "This terminal is the R\E\S\E\T\ output. When used with a pull-up resistor, this open-drain output provides the active low R\E\S\E\T\ signal when the regulator output voltage drops more than 5% below its nominal output (See Datasheet)", 6 GND (power) "Ground"